# Altium footprint library STC54101.PcbLib: 13 footprints
Each footprint in its own frame and in the unit in brackets; x right, y up, seen from the top. Pads: shape width x height; smd on the part's side, far side on the other; paste and mask are expansions set on the pad; w line width, h text height; cw(c..) or ccw(c..) is an arc to the next point about the centre after c.
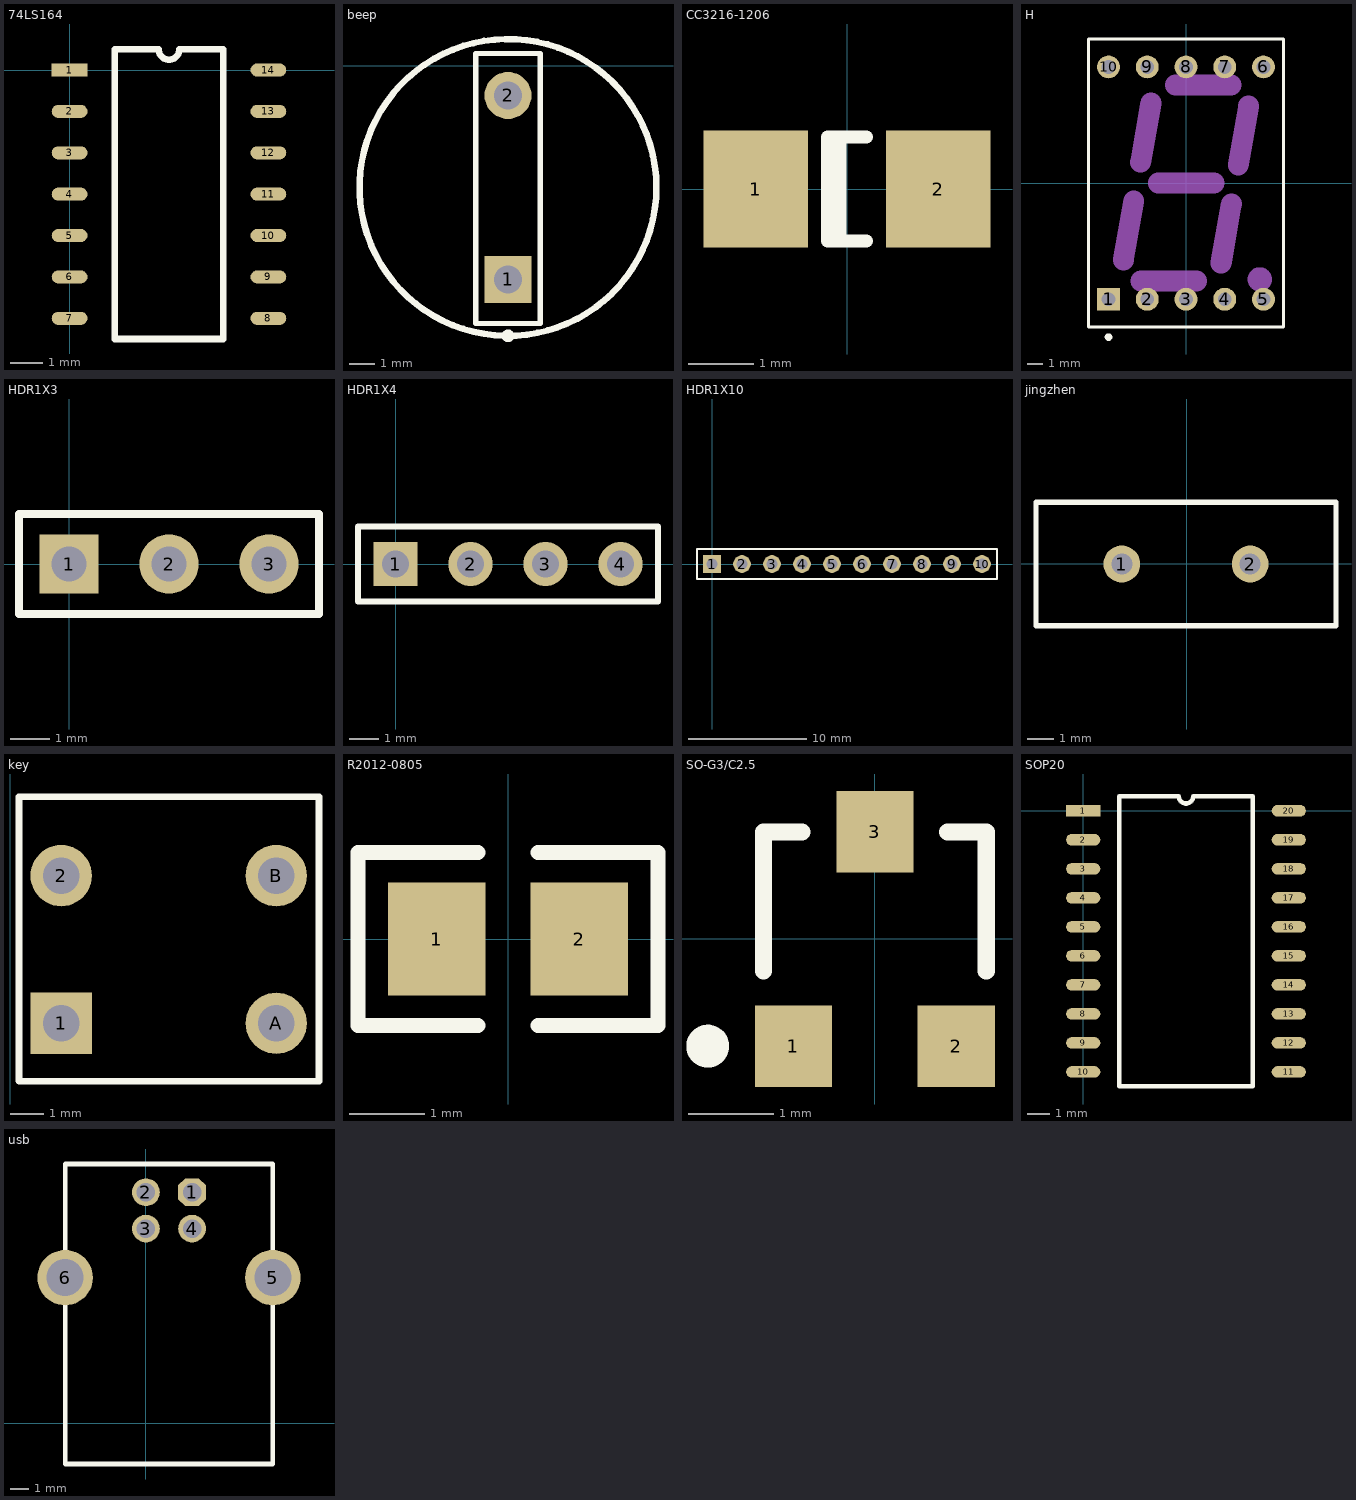
[diagram p0: the footprints below, top view; thin cyan lines are the x and y axes]

## 74LS164 [mm]
pads (14):
  rect 1.1x0.4 smd: 1(0,0)
  oval 1.1x0.4 smd: 2(0,-1.27) 3(0,-2.54) 4(0,-3.81) 5(0,-5.08) 6(0,-6.35) 7(0,-7.62) 8(6.1,-7.62) 9(6.1,-6.35) 10(6.1,-5.08) 11(6.1,-3.81) 12(6.1,-2.54) 13(6.1,-1.27) 14(6.1,0)
Top Overlay:
  lines w0.2: 1.385,-8.255 4.715,-8.255 4.715,0.635 3.367,0.635 cw(c3.05,0.635) 2.732,0.635 1.385,0.635 1.385,-8.255

## beep [mm]
height 9
pads (2):
  rect 1.85x1.85 hole 1.1: 1(14.213,-8.409)
  round 1.85 hole 1.1: 2(14.213,-1.17)
Top Overlay:
  circle w0.25: c14.214,-10.63 r0.125
  circle w0.254: c14.213,-4.79 r5.842
  lines w0.2: 12.943,-10.149 12.943,-1.589 12.943,0.481 15.483,0.481 15.483,-1.589 15.483,-10.149 12.943,-10.149

## CC3216-1206 [mm] "Chip Capacitor; Body 3.2 x 1.6 mm (LxW typ)"
height 1.35
pads (2):
  rect 1.6x1.8 smd: 1(-1.4,0) 2(1.4,0)
Top Overlay:
  lines w0.2: -0.11,-0.8 -0.11,0.8 ; 0.3,-0.8 -0.3,-0.8 -0.3,0.8 0.3,0.8

## H [mm] "LED, 7-Segment Display, 14.2 mm, RHD; 10 Leads; Row Space 15.24 mm; Pitch 2.54 mm"
height 8.25
pads (10):
  rect 1.5x1.5 hole 0.9: 1(-5.08,-7.62)
  round 1.5 hole 0.9: 2(-2.54,-7.62) 3(0,-7.62) 4(2.54,-7.62) 5(5.08,-7.62) 6(5.08,7.62) 7(2.54,7.62) 8(0,7.62) 9(-2.54,7.62) 10(-5.08,7.62)
Top Overlay:
  circle w0.25: c-5.08,-10.1 r0.125
  lines w0.2: -6.4,-9.45 -6.4,9.45 6.4,9.45 6.4,-9.45 -6.4,-9.45
Mechanical 1:
  circle w1: c4.842,-6.316 r0.296
  lines w1.37: -4.108,-5.053 -3.425,-1.17 ; -2.974,1.368 -2.293,5.255 ; -2.958,-6.429 0.692,-6.426 ; -1.821,0 1.828,0 ; -0.689,6.425 2.96,6.425 ; 2.295,-5.256 2.98,-1.371 ; 3.427,1.169 4.11,5.058

## HDR1X3 [mm] "Connector; Header; 3 Position"
pads (3):
  rect 1.5x1.5 hole 0.9: 1(0,0)
  round 1.5 hole 0.9: 2(2.54,0) 3(5.08,0)
Top Overlay:
  lines w0.2: -1.27,-1.27 6.35,-1.27 6.35,1.27 -1.27,1.27 -1.27,-1.27

## HDR1X4 [mm] "Connector; Header; 4 Position"
pads (4):
  rect 1.5x1.5 hole 0.9: 1(0,0)
  round 1.5 hole 0.9: 2(2.54,0) 3(5.08,0) 4(7.62,0)
Top Overlay:
  lines w0.2: -1.27,-1.27 8.89,-1.27 8.89,1.27 -1.27,1.27 -1.27,-1.27

## HDR1X10 [mm] "Connector; Header; 10 Position"
pads (10):
  rect 1.5x1.5 hole 0.9: 1(0,0)
  round 1.5 hole 0.9: 2(2.54,0) 3(5.08,0) 4(7.62,0) 5(10.16,0) 6(12.7,0) 7(15.24,0) 8(17.78,0) 9(20.32,0) 10(22.86,0)
Top Overlay:
  lines w0.2: -1.27,-1.27 -1.27,1.27 0.635,1.27 24.13,1.27 24.13,-1.27 -1.27,-1.27

## jingzhen [mm]
height 4
pads (2):
  round 1.4 hole 0.8: 1(-2.476,-0.008) 2(2.404,-0.008)
Top Overlay:
  lines w0.2: -5.736,-2.358 -5.736,2.342 5.664,2.342 5.664,-2.358 -5.736,-2.358

## key [mm]
pads (4):
  rect 1.85x1.85 hole 1.1: 1(1.537,8.02)
  round 1.85 hole 1.1: 2(1.537,12.465) A(8.014,8.02) B(8.014,12.465)
Top Overlay:
  lines w0.2: 0.267,6.28 0.267,14.84 9.3,14.839 9.3,6.273 0.267,6.28

## R2012-0805 [mm] "Thermistor; 2 Leads"
pads (2):
  rect 1.3x1.5 smd: 1(-0.95,0) 2(0.95,0)
Top Overlay:
  lines w0.2: -0.4,-1.15 -2,-1.15 -2,1.15 -0.4,1.15 ; 0.4,-1.15 2,-1.15 2,1.15 0.4,1.15

## SO-G3/C2.5 [mm] "SOT-23; 3 Leads; Body 3.0 x 2.6 mm, inc. leads (LxW max)"
pads (3):
  rect 0.9x0.95 smd: 1(-0.95,-1.25) 2(0.95,-1.25) 3(0,1.25)
Top Overlay:
  circle w0.25: c-1.95,-1.25 r0.125
  lines w0.2: -1.3,-0.375 -1.3,1.25 -0.85,1.25 ; 0.85,1.25 1.3,1.25 1.3,-0.375

## SOP20 [mm]
pads (20):
  rect 1.5x0.5 smd: 1(0,0)
  oval 1.5x0.5 smd: 2(0,-1.27) 3(0,-2.54) 4(0,-3.81) 5(0,-5.08) 6(0,-6.35) 7(0,-7.62) 8(0,-8.89) 9(0,-10.16) 10(0,-11.43) 11(9,-11.43) 12(9,-10.16) 13(9,-8.89) 14(9,-7.62) 15(9,-6.35) 16(9,-5.08) 17(9,-3.81) 18(9,-2.54) 19(9,-1.27) 20(9,0)
Top Overlay:
  lines w0.2: 1.585,-12.065 7.415,-12.065 7.415,0.635 4.818,0.635 cw(c4.5,0.635) 4.182,0.635 1.585,0.635 1.585,-12.065

## usb [mil]
pads (6):
  oct 60x60 hole 40: 1(99.98,500.85)
  round 60 hole 40: 2(-0.02,500.85) 3(-0.02,422.11) 4(99.98,422.11)
  round 120 hole 80: 5(274.98,315.81) 6(-175.02,315.81)
Top Overlay:
  lines w10: -175.02,-87.89 -175.02,562.11 274.98,562.11 274.98,-87.89 -175.02,-87.89